# EAGLE library part BME-280 (library dr-library)
Bosch BME280 Humidity and Pressure Sensor with Temperature Compensation
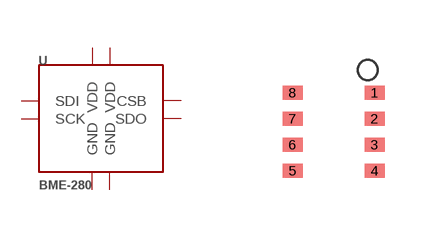
[diagram p28: symbol with the pads of 2.5MMX2.5MM-BME280; footprint 2.5MMX2.5MM-BME280]

Designator prefix U

## BME-280  [2.5MMX2.5MM-BME280]
1  GND  pwr
2  CSB
3  SDI
4  SCK
5  SDO
6  VDD  pwr
7  GND  pwr
8  VDD  pwr

## Footprint 2.5MMX2.5MM-BME280 (pad centres in mm)
smd 0.5 x 0.35: 1 1.025,0.975; 2 1.025,0.325; 3 1.025,-0.325; 4 1.025,-0.975; 5 -1.025,-0.975; 6 -1.025,-0.325; 7 -1.025,0.325; 8 -1.025,0.975